# Altium schematic symbol library Schlib1.SchLib: 4 symbols
Pins are listed as number, name and electrical type; pins without a type are passive.

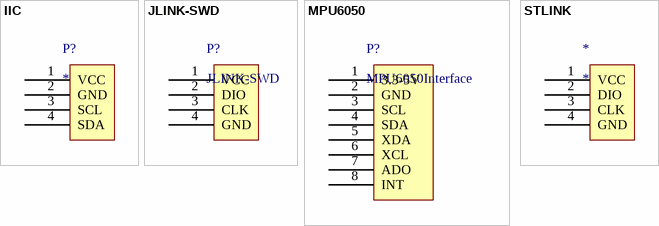
[diagram p0: symbols IIC to STLINK]

## IIC
designator P?
pins: 1 VCC, 2 GND, 3 SCL, 4 SDA

## JLINK-SWD
designator P?
pins: 1 VCC, 2 DIO, 3 CLK, 4 GND

## MPU6050
designator P?, comment MPU6050Interface
pins: 1 3.3-5V, 2 GND, 3 SCL, 4 SDA, 5 XDA, 6 XCL, 7 ADO, 8 INT

## STLINK
designator *
pins: 1 VCC, 2 DIO, 3 CLK, 4 GND